# Altium footprint library ESP07.PcbLib: 1 footprints
Each footprint in its own frame and in the unit in brackets; x right, y up, seen from the top. Pads: shape width x height; smd on the part's side, far side on the other; paste and mask are expansions set on the pad; w line width, h text height; cw(c..) or ccw(c..) is an arc to the next point about the centre after c.
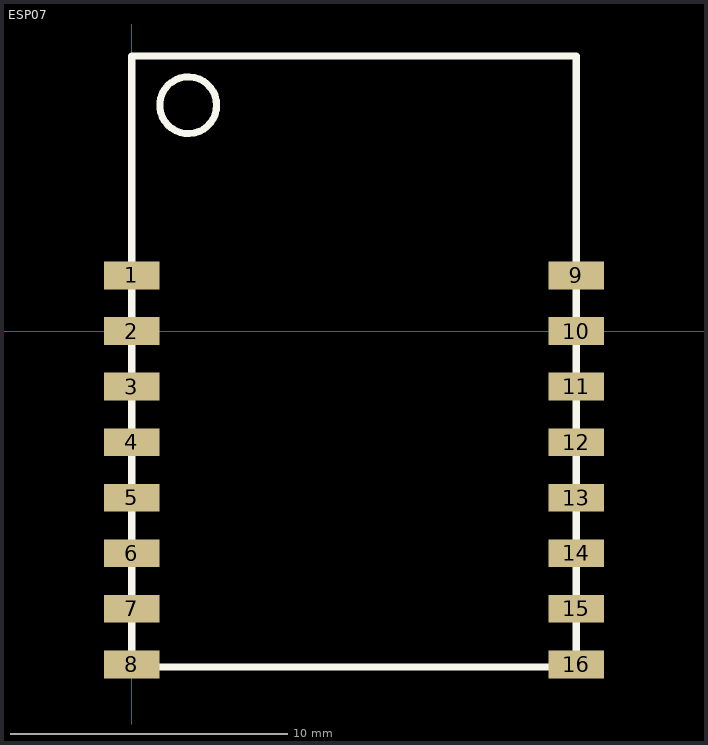
[diagram p0: the footprint, top view; thin cyan lines are the x and y axes]

## ESP07 [mm]
pads (16):
  rect 2x1 smd: 1(0,2) 2(0,0) 3(0,-2) 4(0,-4) 5(0,-6) 6(0,-8) 7(0,-10) 8(0,-12) 9(16,2) 10(16,0) 11(16,-2) 12(16,-4) 13(16,-6) 14(16,-8) 15(16,-10) 16(16,-12)
Top Overlay:
  circle w0.254: c2.032,8.128 r1.024
  lines w0.254: 0,-12.094 0,9.906 16,9.906 16,-12.094 0,-12.094